# EAGLE library part MICRO_MATE-N-LOK_6_RIGHT_ANGLE_THROUG (library con-tyco-micro-mate-n-lok-old)
794620-6
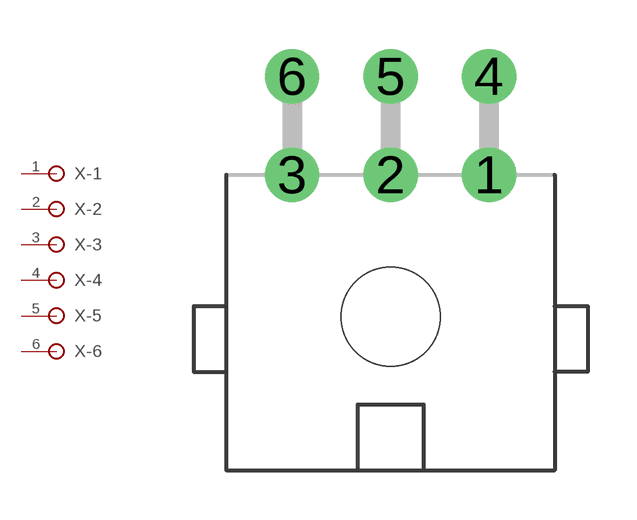
[diagram p9: symbol with the pads of MICRO_MATE-N-LOK_6_RIGHT_ANGLE_THROUG; footprint MICRO_MATE-N-LOK_6_RIGHT_ANGLE_THROUG]

Designator prefix X; gates -3=PIN -2=PIN -1=PIN -4=PIN -5=PIN -6=PIN

## MICRO_MATE-N-LOK_6_RIGHT_ANGLE_THROUG  [MICRO_MATE-N-LOK_6_RIGHT_ANGLE_THROUG]
1  -1:P$1
2  -2:P$1
3  -3:P$1
4  -4:P$1
5  -5:P$1
6  -6:P$1

## Footprint MICRO_MATE-N-LOK_6_RIGHT_ANGLE_THROUG (pad centres in mm)
drill 1.1: 1 3,3; 2 0,3; 3 -3,3; 4 3,6; 5 0,6; 6 -3,6
hole 3 at 0,-1.32